# EAGLE library part TLW-134-06-T-S (library SAMTEC-Txx_By_element14_Batch_1)
LOW PROFILE HEADER
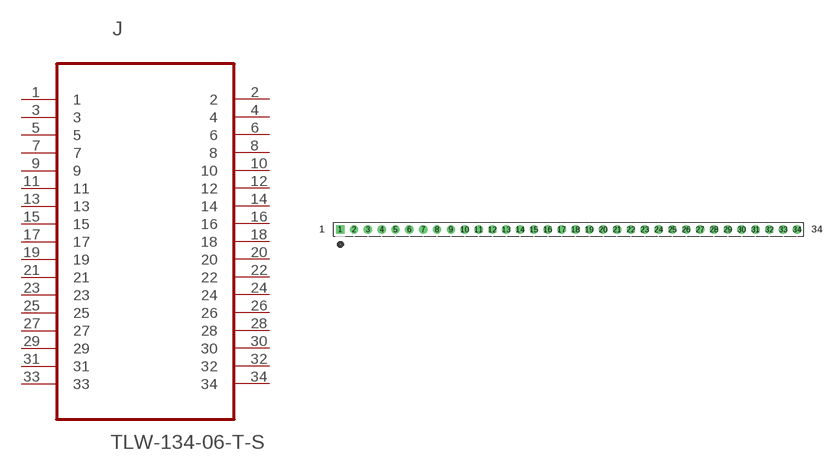
[diagram p363: symbol with the pads of SAMTEC_TLW-134-06-T-S; footprint SAMTEC_TLW-134-06-T-S]

Designator prefix J

## TLW-134-06-T-S (MPN: TLW-134-06-T-S; OC_FARNELL: -; OC_NEWARK: 12P0608; PACKAGE: LOW PROFILE HEADER, SINGLE ROW, 34 way; SUPPLIER: SAMTEC)  [SAMTEC_TLW-134-06-T-S]
1  1  pas
2  2  pas
3  3  pas
4  4  pas
5  5  pas
6  6  pas
7  7  pas
8  8  pas
9  9  pas
10  10  pas
11  11  pas
12  12  pas
13  13  pas
14  14  pas
15  15  pas
16  16  pas
17  17  pas
18  18  pas
19  19  pas
20  20  pas
21  21  pas
22  22  pas
23  23  pas
24  24  pas
25  25  pas
26  26  pas
27  27  pas
28  28  pas
29  29  pas
30  30  pas
31  31  pas
32  32  pas
33  33  pas
34  34  pas

## Footprint SAMTEC_TLW-134-06-T-S (pad centres in mm)
drill 1.016 square: 1 -83.82,0
drill 1.016: 2 -81.28,0; 3 -78.74,0; 4 -76.2,0; 5 -73.66,0; 6 -71.12,0; 7 -68.58,0; 8 -66.04,0; 9 -63.5,0; 10 -60.96,0; 11 -58.42,0; 12 -55.88,0; 13 -53.34,0; 14 -50.8,0; 15 -48.26,0; 16 -45.72,0; 17 -43.18,0; 18 -40.64,0; 19 -38.1,0; 20 -35.56,0; 21 -33.02,0; 22 -30.48,0; 23 -27.94,0; 24 -25.4,0; 25 -22.86,0; 26 -20.32,0; 27 -17.78,0; 28 -15.24,0; 29 -12.7,0; 30 -10.16,0; 31 -7.62,0; 32 -5.08,0; 33 -2.54,0; 34 0,0